# Altium footprint library PTC保险.PcbLib: 1 footprints
Each footprint in its own frame and in the unit in brackets; x right, y up, seen from the top. Pads: shape width x height; smd on the part's side, far side on the other; paste and mask are expansions set on the pad; w line width, h text height; cw(c..) or ccw(c..) is an arc to the next point about the centre after c.
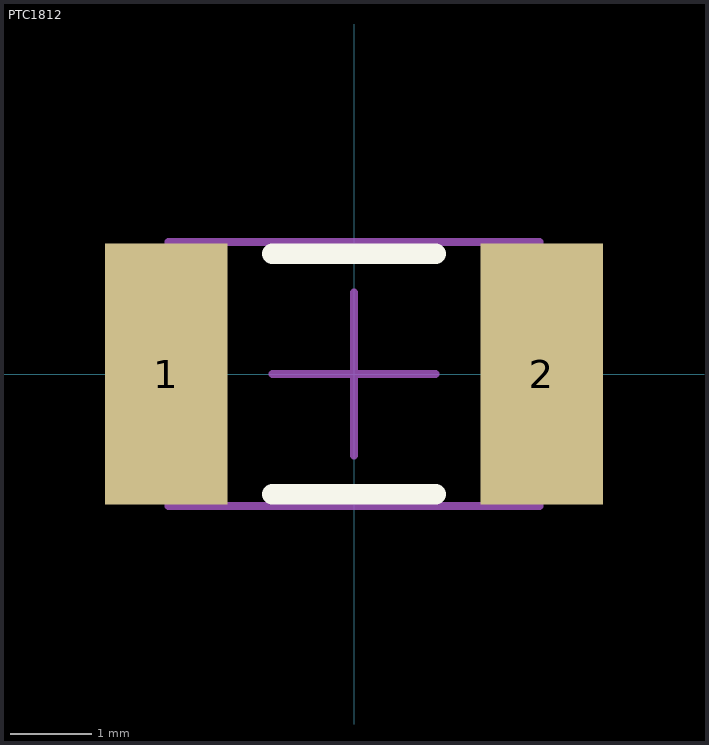
[diagram p0: the footprint, top view; thin cyan lines are the x and y axes]

## PTC1812 [mm] "1812封装，贴片自恢复保险"
height 1
pads (2):
  rect 1.5x3.2 smd: 1(-2.3,0) 2(2.3,0)
Top Overlay:
  lines w0.254: -1,-1.473 1,-1.473 ; -1,1.473 1,1.473
Mechanical 13:
  lines w0.05: -2.262,-1.62 2.262,-1.62 2.262,1.62 -2.262,1.62 -2.262,-1.62
Mechanical 15:
  lines w0.1: -1,0 1,0 ; -0.5,0 0.508,0 ; 0,-1 0,1 ; 0,-0.5 0,0.5 ; -2.275,-1.62 2.275,-1.62 2.275,1.62 -2.275,1.62 -2.275,-1.62
3D body: height 0.55, standoff 0.05, extent -2.262,-1.62 2.288,1.62